# EAGLE library part 717A (library radiotubes)
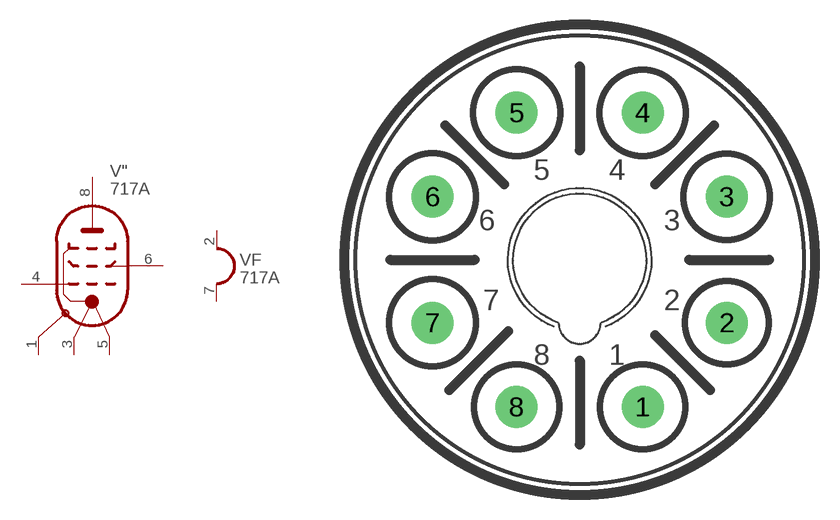
[diagram p125: symbol with the pads of OKTAL; footprint OKTAL]

Designator prefix V; gates "=PENT-2KG F=HEATER_1

## 717A  [OKTAL]
1  ":S  pas
2  F:H1  pas
3  ":KG3  pas
4  ":G1  pas
5  ":K  pas
6  ":G2  pas
7  F:H2  pas
8  ":A  pas

## Footprint OKTAL (pad centres in mm)
drill 1.27 pad 2.54: 1 3.81,-8.89; 2 8.89,-3.81; 3 8.89,3.81; 4 3.81,8.89; 5 -3.81,8.89; 6 -8.89,3.81; 7 -8.89,-3.81; 8 -3.81,-8.89